# Altium footprint library 74VHC595MTCX.PcbLib: 3 footprints
Each footprint in its own frame and in the unit in brackets; x right, y up, seen from the top. Pads: shape width x height; smd on the part's side, far side on the other; paste and mask are expansions set on the pad; w line width, h text height; cw(c..) or ccw(c..) is an arc to the next point about the centre after c.
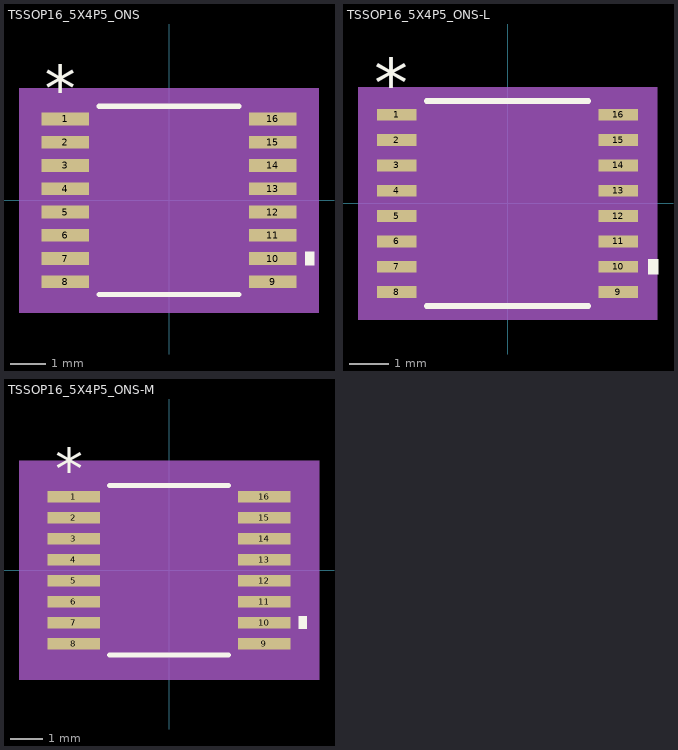
[diagram p0: the footprints below, top view; thin cyan lines are the x and y axes]

## TSSOP16_5X4P5_ONS [mil]
pads (16):
  rect 52x14 smd paste+0 mask+0: 1(-114,89.57) 2(-114,63.98) 3(-114,38.39) 4(-114,12.8) 5(-114,-12.8) 6(-114,-38.39) 7(-114,-63.98) 8(-114,-89.57) 9(114,-89.57) 10(114,-63.98) 11(114,-38.39) 12(114,-12.8) 13(114,12.8) 14(114,38.39) 15(114,63.98) 16(114,89.57)
Top Overlay:
  region: 150,-56.48 160,-56.48 160,-71.48 150,-71.48
  lines w6: -76.89,-103.5 76.89,-103.5 ; -76.89,103.5 76.89,103.5
  text "*" at -136.5,98.57 h50
Mechanical 5:
  region: 165,-123.5 -165,-123.5 -165,123.5 165,123.5
Mechanical 13:
  lines w0: -12,98.5 ccw(c0,98.5) 12,98.5
  lines w1: -126,-95.57 -86.5,-95.57 -86.5,-83.57 -126,-83.57 -126,-95.57 ; -126,-69.98 -86.5,-69.98 -86.5,-57.98 -126,-57.98 -126,-69.98 ; -126,-44.39 -86.5,-44.39 -86.5,-32.39 -126,-32.39 -126,-44.39 ; -126,-18.8 -86.5,-18.8 -86.5,-6.8 -126,-6.8 -126,-18.8 ; -126,6.8 -86.5,6.8 -86.5,18.8 -126,18.8 -126,6.8 ; -126,32.39 -86.5,32.39 -86.5,44.39 -126,44.39 -126,32.39 ; -126,57.98 -86.5,57.98 -86.5,69.98 -126,69.98 -126,57.98 ; -126,83.57 -86.5,83.57 -86.5,95.57 -126,95.57 -126,83.57 ; -86.5,-98.5 -86.5,98.5 86.5,98.5 86.5,-98.5 -86.5,-98.5 ; 86.5,-95.57 126,-95.57 126,-83.57 86.5,-83.57 86.5,-95.57 ; 86.5,-69.98 126,-69.98 126,-57.98 86.5,-57.98 86.5,-69.98 ; 86.5,-44.39 126,-44.39 126,-32.39 86.5,-32.39 86.5,-44.39 ; 86.5,-18.8 126,-18.8 126,-6.8 86.5,-6.8 86.5,-18.8 ; 86.5,6.8 126,6.8 126,18.8 86.5,18.8 86.5,6.8 ; 86.5,32.39 126,32.39 126,44.39 86.5,44.39 86.5,32.39 ; 86.5,57.98 126,57.98 126,69.98 86.5,69.98 86.5,57.98 ; 86.5,83.57 126,83.57 126,95.57 86.5,95.57 86.5,83.57
  text "*" at -84,45.5 h50
Mechanical 15:
  region: -96.5,-106.57 -150,-106.57 -150,106.57 -96.5,106.57 -96.5,108.5 96.5,108.5 96.5,106.57 150,106.57 150,-106.57 96.5,-106.57 96.5,-108.5 -96.5,-108.5
  lines w6: -150,-106.57 -96.5,-106.57 -96.5,-108.5 96.5,-108.5 96.5,-106.57 150,-106.57 150,106.57 96.5,106.57 96.5,108.5 -96.5,108.5 -96.5,106.57 -150,106.57 -150,-106.57
3D body "TSSOP16_5X4P5_ONS.step": height 35.12, standoff 0, extent -125.98,-98.5 125.98,98.5

## TSSOP16_5X4P5_ONS-L [mil]
pads (16):
  rect 40x12 smd paste+0 mask+0: 1(-112,89.57) 2(-112,63.98) 3(-112,38.39) 4(-112,12.8) 5(-112,-12.8) 6(-112,-38.39) 7(-112,-63.98) 8(-112,-89.57) 9(112,-89.57) 10(112,-63.98) 11(112,-38.39) 12(112,-12.8) 13(112,12.8) 14(112,38.39) 15(112,63.98) 16(112,89.57)
Top Overlay:
  region: 142,-56.48 152,-56.48 152,-71.48 142,-71.48
  lines w6: -81.58,-103.5 81.58,-103.5 ; -81.58,103.5 81.58,103.5
  text "*" at -134.5,96.57 h50
Mechanical 5:
  region: 151,-117.5 -151,-117.5 -151,117.5 151,117.5
Mechanical 13:
  lines w0: -12,98.5 ccw(c0,98.5) 12,98.5
  lines w1: -126,-95.57 -126,-83.57 -86.5,-83.57 -86.5,-95.57 -126,-95.57 ; -126,-69.98 -126,-57.98 -86.5,-57.98 -86.5,-69.98 -126,-69.98 ; -126,-44.39 -126,-32.39 -86.5,-32.39 -86.5,-44.39 -126,-44.39 ; -126,-18.8 -126,-6.8 -86.5,-6.8 -86.5,-18.8 -126,-18.8 ; -126,6.8 -126,18.8 -86.5,18.8 -86.5,6.8 -126,6.8 ; -126,32.39 -126,44.39 -86.5,44.39 -86.5,32.39 -126,32.39 ; -126,57.98 -126,69.98 -86.5,69.98 -86.5,57.98 -126,57.98 ; -126,83.57 -126,95.57 -86.5,95.57 -86.5,83.57 -126,83.57 ; -86.5,-98.5 86.5,-98.5 86.5,98.5 -86.5,98.5 -86.5,-98.5 ; 86.5,-95.57 86.5,-83.57 126,-83.57 126,-95.57 86.5,-95.57 ; 86.5,-69.98 86.5,-57.98 126,-57.98 126,-69.98 86.5,-69.98 ; 86.5,-44.39 86.5,-32.39 126,-32.39 126,-44.39 86.5,-44.39 ; 86.5,-18.8 86.5,-6.8 126,-6.8 126,-18.8 86.5,-18.8 ; 86.5,6.8 86.5,18.8 126,18.8 126,6.8 86.5,6.8 ; 86.5,32.39 86.5,44.39 126,44.39 126,32.39 86.5,32.39 ; 86.5,57.98 86.5,69.98 126,69.98 126,57.98 86.5,57.98 ; 86.5,83.57 86.5,95.57 126,95.57 126,83.57 86.5,83.57
  text "*" at -84,45.5 h50
Mechanical 15:
  region: -90.5,-99.57 -136,-99.57 -136,99.57 -90.5,99.57 -90.5,102.5 90.5,102.5 90.5,99.57 136,99.57 136,-99.57 90.5,-99.57 90.5,-102.5 -90.5,-102.5
  lines w6: -136,-99.57 -136,99.57 -90.5,99.57 -90.5,102.5 90.5,102.5 90.5,99.57 136,99.57 136,-99.57 90.5,-99.57 90.5,-102.5 -90.5,-102.5 -90.5,-99.57 -136,-99.57
3D body "TSSOP16_5X4P5_ONS.step": height 35.12, standoff 0, extent -125.98,-98.5 125.98,98.5

## TSSOP16_5X4P5_ONS-M [mil]
pads (16):
  rect 64x14 smd paste+0 mask+0: 1(-116,89.57) 2(-116,63.98) 3(-116,38.39) 4(-116,12.8) 5(-116,-12.8) 6(-116,-38.39) 7(-116,-63.98) 8(-116,-89.57) 9(116,-89.57) 10(116,-63.98) 11(116,-38.39) 12(116,-12.8) 13(116,12.8) 14(116,38.39) 15(116,63.98) 16(116,89.57)
Top Overlay:
  region: 158,-56.48 168,-56.48 168,-71.48 158,-71.48
  lines w6: -72.89,-103.5 72.89,-103.5 ; -72.89,103.5 72.89,103.5
  text "*" at -138.5,98.57 h50
Mechanical 5:
  region: 183,-133.5 -183,-133.5 -183,133.5 183,133.5
Mechanical 13:
  lines w0: -12,98.5 ccw(c0,98.5) 12,98.5
  lines w1: -126,-95.57 -126,-83.57 -86.5,-83.57 -86.5,-95.57 -126,-95.57 ; -126,-69.98 -126,-57.98 -86.5,-57.98 -86.5,-69.98 -126,-69.98 ; -126,-44.39 -126,-32.39 -86.5,-32.39 -86.5,-44.39 -126,-44.39 ; -126,-18.8 -126,-6.8 -86.5,-6.8 -86.5,-18.8 -126,-18.8 ; -126,6.8 -126,18.8 -86.5,18.8 -86.5,6.8 -126,6.8 ; -126,32.39 -126,44.39 -86.5,44.39 -86.5,32.39 -126,32.39 ; -126,57.98 -126,69.98 -86.5,69.98 -86.5,57.98 -126,57.98 ; -126,83.57 -126,95.57 -86.5,95.57 -86.5,83.57 -126,83.57 ; -86.5,-98.5 86.5,-98.5 86.5,98.5 -86.5,98.5 -86.5,-98.5 ; 86.5,-95.57 86.5,-83.57 126,-83.57 126,-95.57 86.5,-95.57 ; 86.5,-69.98 86.5,-57.98 126,-57.98 126,-69.98 86.5,-69.98 ; 86.5,-44.39 86.5,-32.39 126,-32.39 126,-44.39 86.5,-44.39 ; 86.5,-18.8 86.5,-6.8 126,-6.8 126,-18.8 86.5,-18.8 ; 86.5,6.8 86.5,18.8 126,18.8 126,6.8 86.5,6.8 ; 86.5,32.39 86.5,44.39 126,44.39 126,32.39 86.5,32.39 ; 86.5,57.98 86.5,69.98 126,69.98 126,57.98 86.5,57.98 ; 86.5,83.57 86.5,95.57 126,95.57 126,83.57 86.5,83.57
  text "*" at -84,45.5 h50
Mechanical 15:
  region: -106.5,-116.57 -168,-116.57 -168,116.57 -106.5,116.57 -106.5,118.5 106.5,118.5 106.5,116.57 168,116.57 168,-116.57 106.5,-116.57 106.5,-118.5 -106.5,-118.5
  lines w6: -168,-116.57 -168,116.57 -106.5,116.57 -106.5,118.5 106.5,118.5 106.5,116.57 168,116.57 168,-116.57 106.5,-116.57 106.5,-118.5 -106.5,-118.5 -106.5,-116.57 -168,-116.57
3D body "TSSOP16_5X4P5_ONS.step": height 35.12, standoff 0, extent -125.98,-98.5 125.98,98.5